# EAGLE library part 53?-15 (library con-molex)
CONNECTOR wire to board 1.25 mm (.049 inch) pitch header
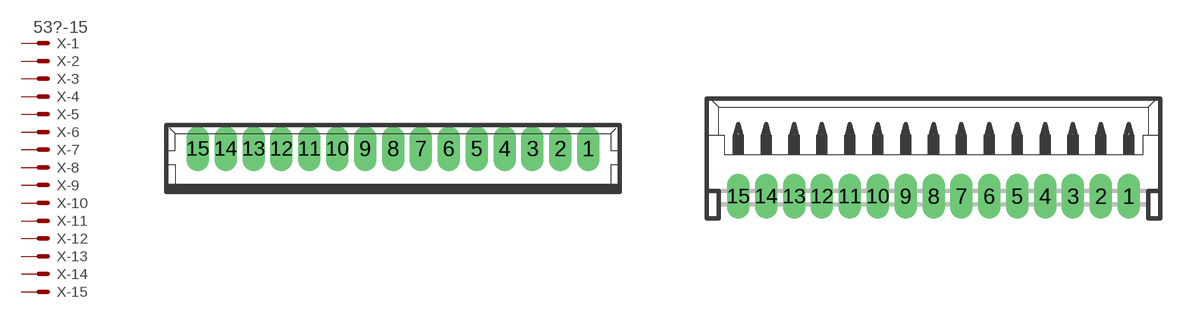
[diagram p14: symbol with the pads of 53047-15; footprints 53047-15, 53048-15]

Designator prefix X; gates -1=MV -2=M -3=M -4=M -5=M -6=M -7=M -8=M -9=M -10=M -11=M -12=M -13=M -14=M -15=M

## 53047-15 (MPN: 53047-1510-C; OC_FARNELL: unknown; OC_NEWARK: 79K4146)  [53047-15]
1  -1:S  pas
2  -2:S  pas
3  -3:S  pas
4  -4:S  pas
5  -5:S  pas
6  -6:S  pas
7  -7:S  pas
8  -8:S  pas
9  -9:S  pas
10  -10:S  pas
11  -11:S  pas
12  -12:S  pas
13  -13:S  pas
14  -14:S  pas
15  -15:S  pas

## 53048-15 (MPN: 53048-1510; OC_FARNELL: 9732942; OC_NEWARK: 98K9840)  [53048-15]
Pads as for 53047-15

## 53261-15 (OC_FARNELL: 1125365; OC_NEWARK: unknown)  [53261-15]
Pads as for 53047-15

## 53398-15 (MF: MOLEX; MPN: 53398-1590; OC_FARNELL: 1125358; OC_NEWARK: 57H5433)  [53398-15]
Pads as for 53047-15

## Footprint 53047-15 (pad centres in mm)
CONNECTOR wire to board 1.25 mm (.049 inch) pitch header straight Sourcxe: http://www.molex.com/pdm_docs/sd/530470210_sd.pdf
drill 0.5 pad 0.698 long: 1 8.75,0.45; 2 7.5,0.45; 3 6.25,0.45; 4 5,0.45; 5 3.75,0.45; 6 2.5,0.45; 7 1.25,0.45; 8 0,0.45; 9 -1.25,0.45; 10 -2.5,0.45; 11 -3.75,0.45; 12 -5,0.45; 13 -6.25,0.45; 14 -7.5,0.45; 15 -8.75,0.45

## Footprint 53048-15 (pad centres in mm)
CONNECTOR wire to board 1.25 mm (.049 inch) pitch header right angle
drill 0.5 pad 0.698 long: 1 8.75,-1.25; 2 7.5,-1.25; 3 6.25,-1.25; 4 5,-1.25; 5 3.75,-1.25; 6 2.5,-1.25; 7 1.25,-1.25; 8 0,-1.25; 9 -1.25,-1.25; 10 -2.5,-1.25; 11 -3.75,-1.25; 12 -5,-1.25; 13 -6.25,-1.25; 14 -7.5,-1.25; 15 -8.75,-1.25

## Footprint 53261-15 (pad centres in mm)
CONNECTOR wire to board 1.25 mm (.049 inch) pitch header SMT right angle
smd 0.8 x 2: 1 8.75,-2.5; 2 7.5,-2.5; 3 6.25,-2.5; 4 5,-2.5; 5 3.75,-2.5; 6 2.5,-2.5; 7 1.25,-2.5; 8 0,-2.5; 9 -1.25,-2.5; 10 -2.5,-2.5; 11 -3.75,-2.5; 12 -5,-2.5; 13 -6.25,-2.5; 14 -7.5,-2.5; 15 -8.75,-2.5
smd 2.1 x 3: S1 11.25,0.625; S2 -11.25,0.625

## Footprint 53398-15 (pad centres in mm)
CONNECTOR wire to board 1.25 mm (.049 inch) pitch header SMT straight
smd 0.8 x 1.8: 1 8.75,-2.5; 2 7.5,-2.5; 3 6.25,-2.5; 4 5,-2.5; 5 3.75,-2.5; 6 2.5,-2.5; 7 1.25,-2.5; 8 0,-2.5; 9 -1.25,-2.5; 10 -2.5,-2.5; 11 -3.75,-2.5; 12 -5,-2.5; 13 -6.25,-2.5; 14 -7.5,-2.5; 15 -8.75,-2.5
smd 2.1 x 3: S1 11.25,0.625; S2 -11.25,0.625